# Altium schematic symbol library IC.SchLib: 18 symbols
Pins are listed as number, name and electrical type; pins without a type are passive.

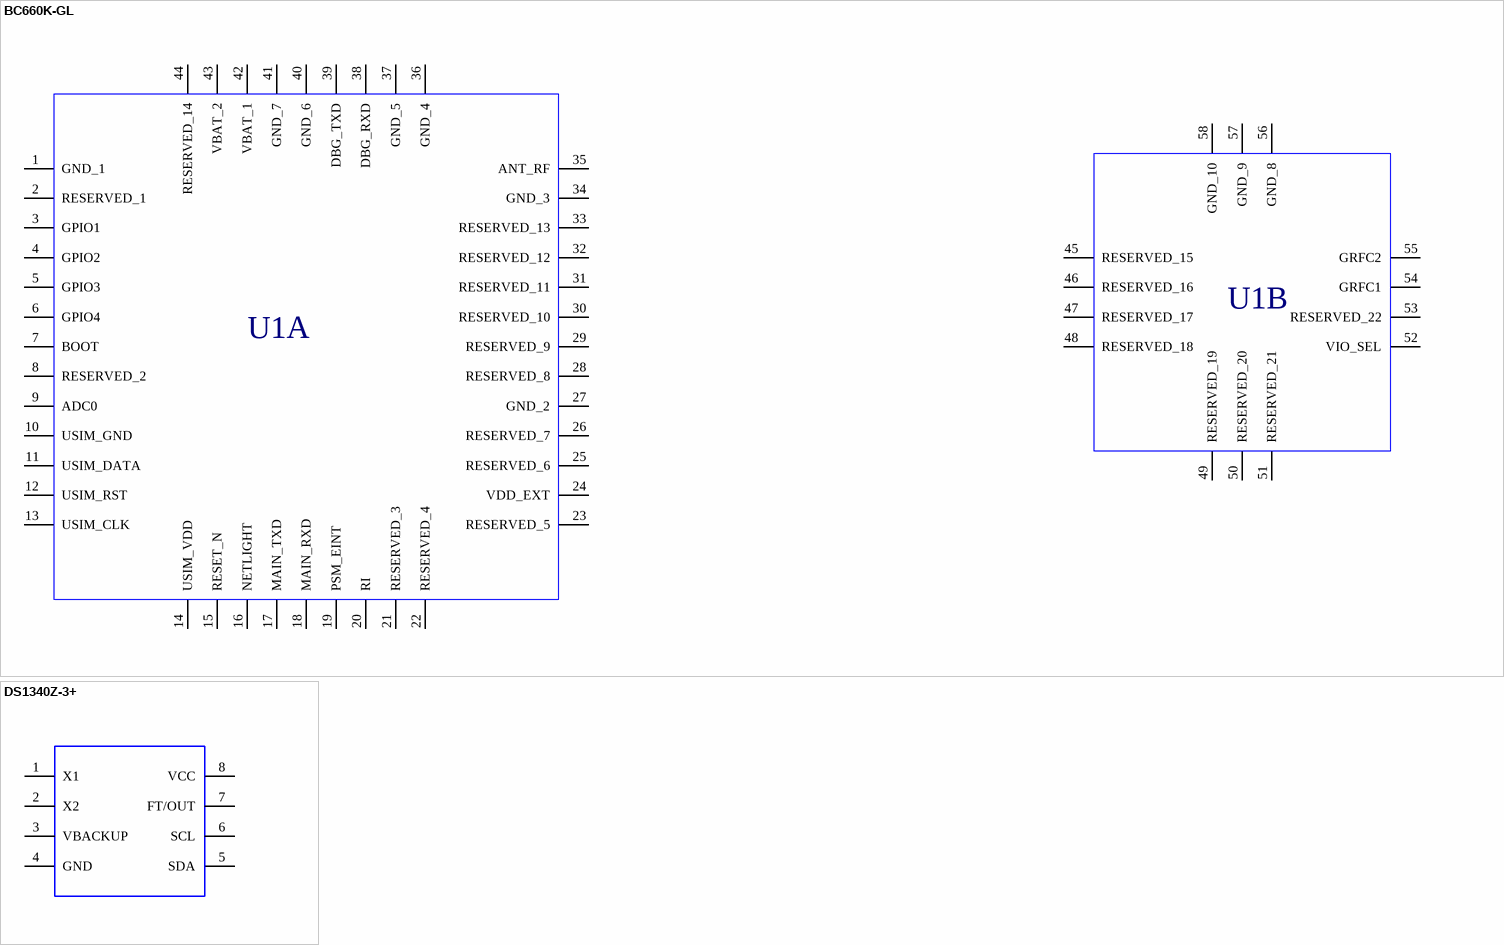
[diagram p0: symbols BC660K-GL to DS1340Z-3+]

## BC660K-GL
designator U?
Compact NB-IoT Module with Ultra-low Power Consumption LTE Cat NB2 2.2V to 4.3V 16.7kbps/158.5kbps 58-Pin LCC - Tape and Reel; Manufacturer_Name: Quectel; Geometry.Height: 2.2mm; Manufacturer_Part_Number: BC660K-GL; Mouser Part Number: *; Mouser Price/Stock: *; Arrow Part Number: *; Arrow Price/Stock: *; Mouser Testing Part Number: *; Mouser Testing Price/Stock: *; Datasheet Link: https://www.quectel.com/wp-content/uploads/2021/04/Quectel_BC660K-GL_Hardware_Design_V1.0.pdf
footprint BC660KGL
pins: 1 GND_1, 2 RESERVED_1, 3 GPIO1, 4 GPIO2, 5 GPIO3, 6 GPIO4, 7 BOOT, 8 RESERVED_2, 9 ADC0, 10 USIM_GND, 11 USIM_DATA, 12 USIM_RST, 13 USIM_CLK, 14 USIM_VDD, 15 RESET_N, 16 NETLIGHT, 17 MAIN_TXD, 18 MAIN_RXD, 19 PSM_EINT, 20 RI, 21 RESERVED_3, 22 RESERVED_4, 23 RESERVED_5, 24 VDD_EXT, 25 RESERVED_6, 26 RESERVED_7, 27 GND_2, 28 RESERVED_8, 29 RESERVED_9, 30 RESERVED_10, 31 RESERVED_11, 32 RESERVED_12, 33 RESERVED_13, 34 GND_3, 35 ANT_RF, 36 GND_4, 37 GND_5, 38 DBG_RXD, 39 DBG_TXD, 40 GND_6, 41 GND_7, 42 VBAT_1, 43 VBAT_2, 44 RESERVED_14, 45 RESERVED_15, 46 RESERVED_16, 47 RESERVED_17, 48 RESERVED_18, 49 RESERVED_19, 50 RESERVED_20, 51 RESERVED_21, 52 VIO_SEL, 53 RESERVED_22, 54 GRFC1, 55 GRFC2, 56 GND_8, 57 GND_9, 58 GND_10
text: U1B; U1A

## DS1340Z-3+
designator B?
Maxim DS1340Z-3+ Real Time Clock  Calendar 8-Pin SOIC; Manufacturer_Name: Maxim Integrated; Geometry.Height: 1.75mm; Manufacturer_Part_Number: DS1340Z-3+; Mouser Part Number: 700-DS1340Z-3; Mouser Price/Stock: https://www.mouser.co.uk/ProductDetail/Maxim-Integrated/DS1340Z-3%2b?qs=1eQvB6Dk1vgZlP%2FkqXh3xQ%3D%3D; Arrow Part Number: *; Arrow Price/Stock: *; Mouser Testing Part Number: *; Mouser Testing Price/Stock: *; Datasheet Link: https://datasheets.maximintegrated.com/en/ds/DS1340-DS1340C.pdf
footprint SOIC127P600X175-8N
pins: 1 X1, 2 X2, 3 VBACKUP, 4 GND, 5 SDA, 6 SCL, 7 FT/OUT, 8 VCC

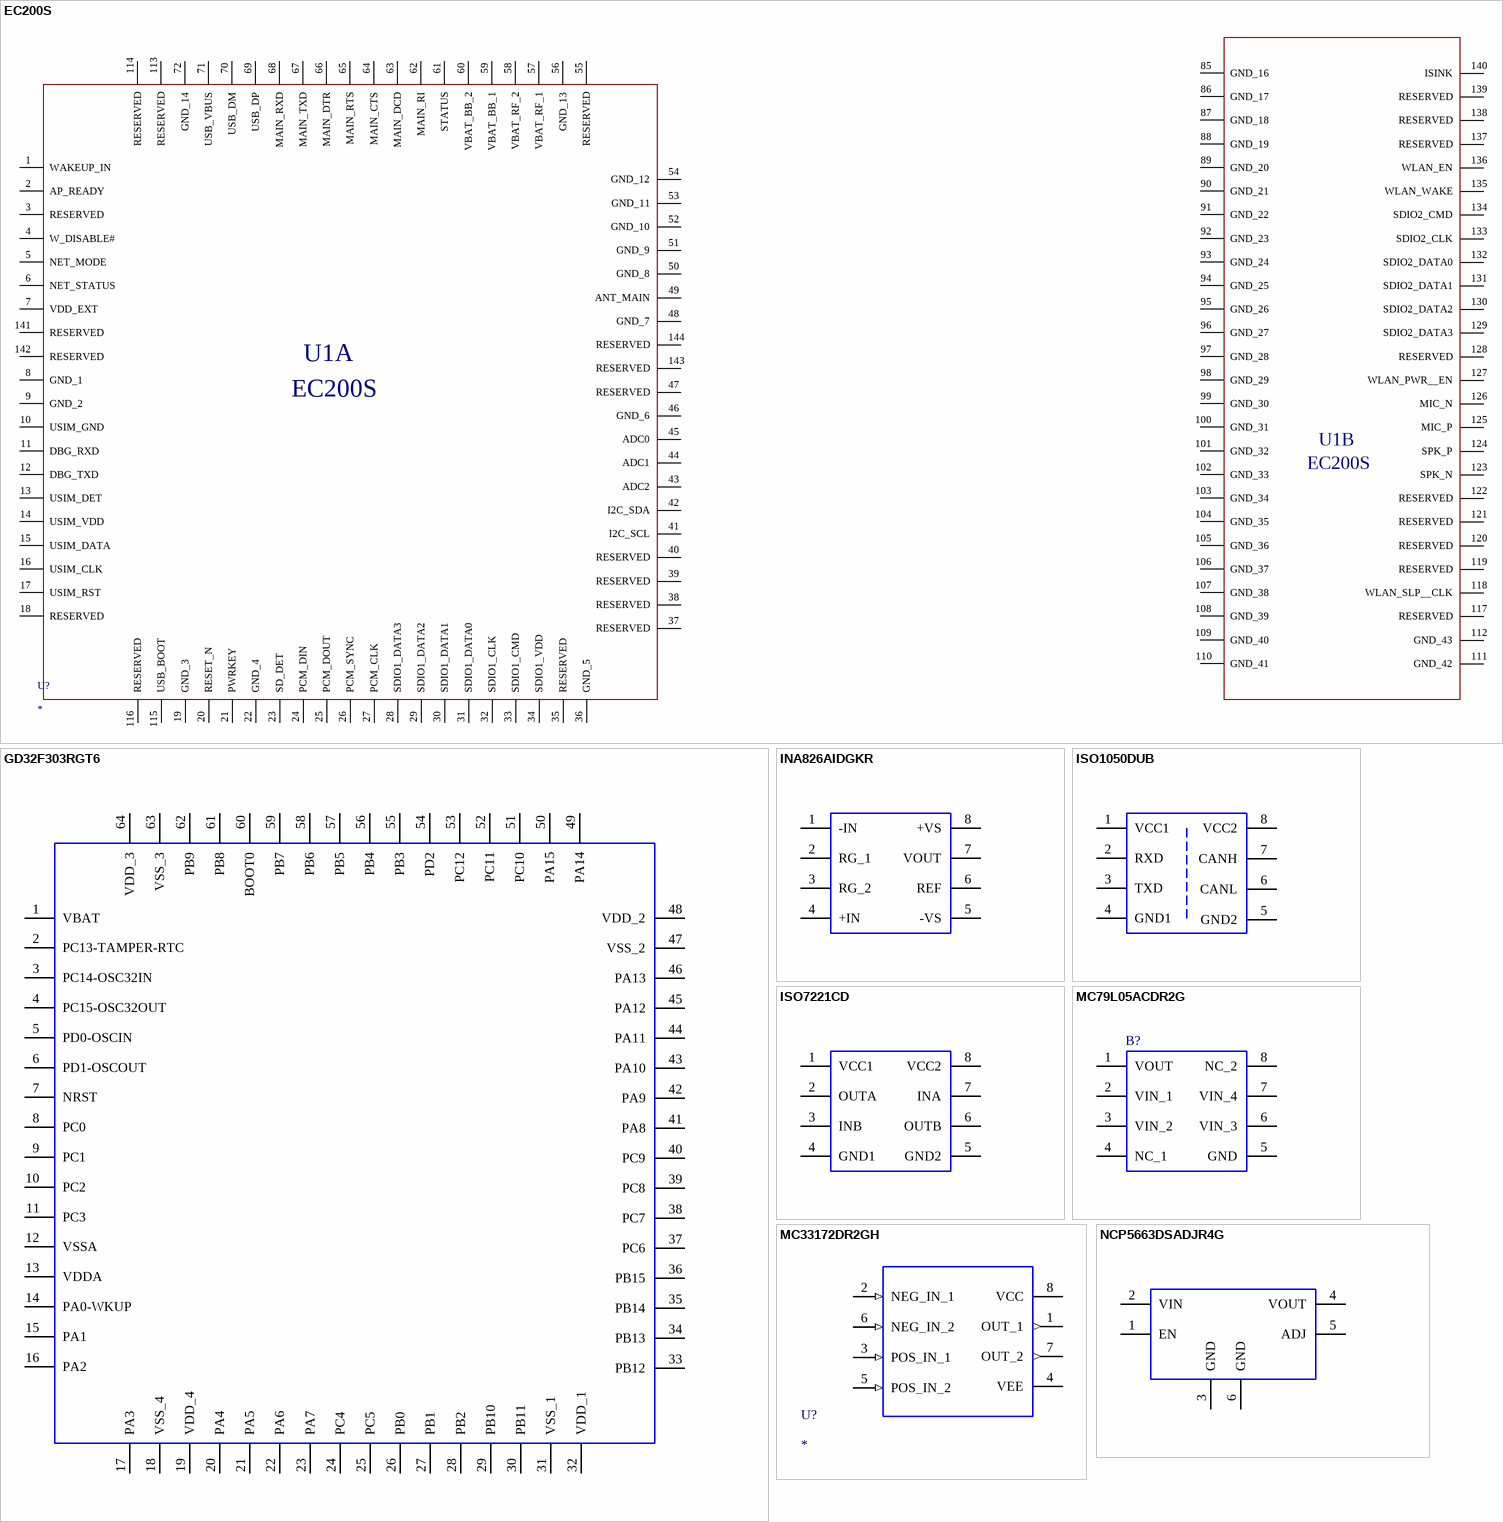
[diagram p1: symbols EC200S to NCP5663DSADJR4G]

## EC200S
designator U?
GMS/4G-LTE
footprint EC200U
footprint EC200U
pins: 1 WAKEUP_IN, 2 AP_READY, 3 RESERVED, 4 W_DISABLE#, 5 NET_MODE, 6 NET_STATUS, 7 VDD_EXT, 8 GND_1, 9 GND_2, 10 USIM_GND, 11 DBG_RXD, 12 DBG_TXD, 13 USIM_DET, 14 USIM_VDD, 15 USIM_DATA, 16 USIM_CLK, 17 USIM_RST, 18 RESERVED, 19 GND_3, 20 RESET_N, 21 PWRKEY, 22 GND_4, 23 SD_DET, 24 PCM_DIN, 25 PCM_DOUT, 26 PCM_SYNC, 27 PCM_CLK, 28 SDIO1_DATA3, 29 SDIO1_DATA2, 30 SDIO1_DATA1, 31 SDIO1_DATA0, 32 SDIO1_CLK, 33 SDIO1_CMD, 34 SDIO1_VDD, 35 RESERVED, 36 GND_5, 37 RESERVED, 38 RESERVED, 39 RESERVED, 40 RESERVED, 41 I2C_SCL, 42 I2C_SDA, 43 ADC2, 44 ADC1, 45 ADC0, 46 GND_6, 47 RESERVED, 48 GND_7, 49 ANT_MAIN, 50 GND_8, 51 GND_9, 52 GND_10, 53 GND_11, 54 GND_12, 55 RESERVED, 56 GND_13, 57 VBAT_RF_1, 58 VBAT_RF_2, 59 VBAT_BB_1, 60 VBAT_BB_2, 61 STATUS, 62 MAIN_RI, 63 MAIN_DCD, 64 MAIN_CTS, 65 MAIN_RTS, 66 MAIN_DTR, 67 MAIN_TXD, 68 MAIN_RXD, 69 USB_DP, 70 USB_DM, 71 USB_VBUS, 72 GND_14, 85 GND_16, 86 GND_17, 87 GND_18, 88 GND_19, 89 GND_20, 90 GND_21, 91 GND_22, 92 GND_23, 93 GND_24, 94 GND_25, 95 GND_26, 96 GND_27, 97 GND_28, 98 GND_29, 99 GND_30, 100 GND_31, 101 GND_32, 102 GND_33, 103 GND_34, 104 GND_35, 105 GND_36, 106 GND_37, 107 GND_38, 108 GND_39, 109 GND_40, 110 GND_41, 111 GND_42, 112 GND_43, 113 RESERVED, 114 RESERVED, 115 USB_BOOT, 116 RESERVED, 117 RESERVED, 118 WLAN_SLP__CLK, 119 RESERVED, 120 RESERVED, 121 RESERVED, 122 RESERVED, 123 SPK_N, 124 SPK_P, 125 MIC_P, 126 MIC_N, 127 WLAN_PWR__EN, 128 RESERVED, 129 SDIO2_DATA3, 130 SDIO2_DATA2, 131 SDIO2_DATA1, 132 SDIO2_DATA0, 133 SDIO2_CLK, 134 SDIO2_CMD, 135 WLAN_WAKE, 136 WLAN_EN, 137 RESERVED, 138 RESERVED, 139 RESERVED, 140 ISINK, 141 RESERVED, 142 RESERVED, 143 RESERVED, 144 RESERVED
text: U1A; U1B

## GD32F303RGT6
designator B?
ARM Cortex-M4 32-bit MCU; Manufacturer_Name: GigaDevice Semiconductor (HK) Limited; Geometry.Height: 1.6mm; Manufacturer_Part_Number: GD32F303RGT6; Mouser Part Number: N/A; Mouser Price/Stock: https://www.mouser.co.uk/ProductDetail/GigaDevice/GD32F303RGT6?qs=A6eO%252BMLsxmRbzSGlFw6W%252BQ%3D%3D; Arrow Part Number: *; Arrow Price/Stock: *; Mouser Testing Part Number: *; Mouser Testing Price/Stock: *; Datasheet Link: https://www.gigadevice.com/datasheet/gd32f303xxxx-datasheet/
footprint QFP50P1200X1200X160-64N
footprint QFP50P1200X1200X160-64N
pins: 1 VBAT, 2 PC13-TAMPER-RTC, 3 PC14-OSC32IN, 4 PC15-OSC32OUT, 5 PD0-OSCIN, 6 PD1-OSCOUT, 7 NRST, 8 PC0, 9 PC1, 10 PC2, 11 PC3, 12 VSSA, 13 VDDA, 14 PA0-WKUP, 15 PA1, 16 PA2, 17 PA3, 18 VSS_4, 19 VDD_4, 20 PA4, 21 PA5, 22 PA6, 23 PA7, 24 PC4, 25 PC5, 26 PB0, 27 PB1, 28 PB2, 29 PB10, 30 PB11, 31 VSS_1, 32 VDD_1, 33 PB12, 34 PB13, 35 PB14, 36 PB15, 37 PC6, 38 PC7, 39 PC8, 40 PC9, 41 PA8, 42 PA9, 43 PA10, 44 PA11, 45 PA12, 46 PA13, 47 VSS_2, 48 VDD_2, 49 PA14, 50 PA15, 51 PC10, 52 PC11, 53 PC12, 54 PD2, 55 PB3, 56 PB4, 57 PB5, 58 PB6, 59 PB7, 60 BOOT0, 61 PB8, 62 PB9, 63 VSS_3, 64 VDD_3

## INA826AIDGKR
designator B?
Precision, 200-uA Supply Current, 36-V Supply Instrumentation Amplifier; Manufacturer_Name: Texas Instruments; Geometry.Height: 1.1mm; Manufacturer_Part_Number: INA826AIDGKR; Mouser Part Number: 595-INA826AIDGKR; Mouser Price/Stock: https://www.mouser.co.uk/ProductDetail/Texas-Instruments/INA826AIDGKR?qs=RqytGdBYyUFRygOfwpYOmQ%3D%3D; Arrow Part Number: INA826AIDGKR; Arrow Price/Stock: https://www.arrow.com/en/products/ina826aidgkr/texas-instruments?region=nac; Mouser Testing Part Number: *; Mouser Testing Price/Stock: *; Datasheet Link: http://www.ti.com/lit/ds/symlink/ina826.pdf
footprint SOP65P490X110-8N
footprint SOP65P490X110-8N
pins: 1 -IN, 2 RG_1, 3 RG_2, 4 +IN, 5 -VS, 6 REF, 7 VOUT, 8 +VS

## ISO1050DUB
designator B?
CAN Transceiver 1Mbit/s ISO 11898-2 Silent-Mode 8pins SOIC; Manufacturer_Name: Texas Instruments; Geometry.Height: 4.85mm; Manufacturer_Part_Number: ISO1050DUB; Mouser Part Number: 595-ISO1050DUB; Mouser Price/Stock: https://www.mouser.co.uk/ProductDetail/Texas-Instruments/ISO1050DUB?qs=IK5e5L0zOXiBKtns%252BwxBWw%3D%3D; Arrow Part Number: ISO1050DUB; Arrow Price/Stock: https://www.arrow.com/en/products/iso1050dub/texas-instruments?region=nac; Mouser Testing Part Number: *; Mouser Testing Price/Stock: *; Datasheet Link: https://datasheet.datasheetarchive.com/originals/distributors/Datasheets-SFU2/DSASFU100032000.pdf
footprint SOP254P1040X485-8N
footprint SOP254P1040X485-8N
pins: 1 VCC1, 2 RXD, 3 TXD, 4 GND1, 5 GND2, 6 CANL, 7 CANH, 8 VCC2

## ISO7221CD
designator B?
Texas Instruments ISO7221CD Digital Isolator SOIC8; Geometry.Height: 1.75mm; Manufacturer_Name: Texas Instruments; Manufacturer_Part_Number: ISO7221CD; Mouser Part Number: 595-ISO7221CD; Mouser Price/Stock: https://www.mouser.co.uk/ProductDetail/Texas-Instruments/ISO7221CD?qs=tP77tliwutCCmPUysEBMTw%3D%3D; Arrow Part Number: ISO7221CD; Arrow Price/Stock: https://www.arrow.com/en/products/iso7221cd/texas-instruments?region=nac; Mouser Testing Part Number: *; Mouser Testing Price/Stock: *; Datasheet Link: http://www.ti.com/lit/ds/symlink/iso7220c.pdf
footprint SOIC127P600X175-8N
pins: 1 VCC1, 2 OUTA, 3 INB, 4 GND1, 5 GND2, 6 OUTB, 7 INA, 8 VCC2

## MC79L05ACDR2G
designator B?
Manufacturer_Name: onsemi; Geometry.Height: 1.75mm; Manufacturer_Part_Number: MC79L05ACDR2G; Mouser Part Number: 863-MC79L05ACDR2G; Mouser Price/Stock: https://www.mouser.co.uk/ProductDetail/onsemi/MC79L05ACDR2G?qs=%252B9%2Fcbd0IE0RF56w%2FNOqBRg%3D%3D; Arrow Part Number: MC79L05ACDR2G; Arrow Price/Stock: https://www.arrow.com/en/products/mc79l05acdr2g/on-semiconductor; Mouser Testing Part Number: *; Mouser Testing Price/Stock: *; Datasheet Link: http://www.onsemi.com/pub/Collateral/MC79L00-D.PDF
footprint SOIC127P600X175-8N
pins: 1 VOUT, 2 VIN_1, 3 VIN_2, 4 NC_1, 5 GND, 6 VIN_3, 7 VIN_4, 8 NC_2

## MC33172DR2GH
designator U?
General Purpose Amplifier 2 Circuit - 8-SOIC; MF: ON Semiconductor; MP: MC33172DR2GH; Purchase-URL: https://pricing.snapeda.com/search/part/MC33172DR2GH/?ref=eda; Value: *; SnapEDA_Link: https://www.snapeda.com/parts/MC33172DR2GH/Onsemi/view-part/?ref=snap; Package: None; Check_prices: https://www.snapeda.com/parts/MC33172DR2GH/Onsemi/view-part/?ref=eda; Availability: In Stock; Price: None
footprint SOIC127P600X175-8N
pins: 1 OUT_1 (out), 2 NEG_IN_1 (in), 3 POS_IN_1 (in), 4 VEE (power), 5 POS_IN_2 (in), 6 NEG_IN_2 (in), 7 OUT_2 (out), 8 VCC (power)

## NCP5663DSADJR4G
designator B?
Linear Voltage Regulator, LDO, Fast Response, 3.0 A, with Enable Vout: Adj; Manufacturer_Name: onsemi; Geometry.Height: 4.826mm; Manufacturer_Part_Number: NCP5663DSADJR4G; Mouser Part Number: 863-NCP5663DSADJR4G; Mouser Price/Stock: https://www.mouser.co.uk/ProductDetail/onsemi/NCP5663DSADJR4G?qs=%2FugrpAKHX8rUyz7Fi%2Fgntg%3D%3D; Arrow Part Number: NCP5663DSADJR4G; Arrow Price/Stock: https://www.arrow.com/en/products/ncp5663dsadjr4g/on-semiconductor?region=nac; Mouser Testing Part Number: *; Mouser Testing Price/Stock: *; Datasheet Link: http://www.onsemi.com/pub/Collateral/NCP5663-D.PDF
footprint NCP5663DSADJR4G
pins: 1 EN, 2 VIN, 3 GND, 4 VOUT, 5 ADJ, 6 GND

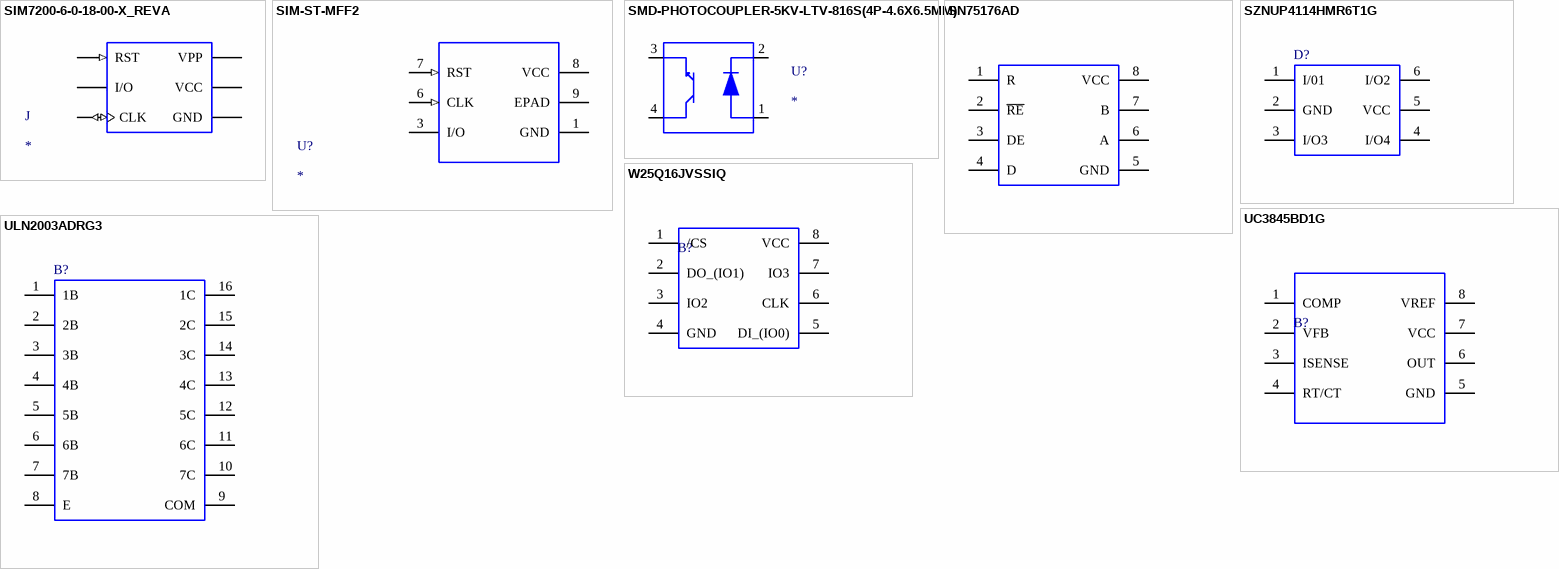
[diagram p2: symbols SIM7200-6-0-18-00-X_REVA to W25Q16JVSSIQ]

## SIM7200-6-0-18-00-X_REVA
designator J
6 Position Card Connector Micro SIM Surface Mount, Right Angle Gold; MF: Global Connector Technology; MP: SIM7200-6-0-18-00-A; SnapEDA_Link: https://www.snapeda.com/parts/SIM7200-6-0-18-00-A/Global%20Connector%20Technology/view-part/812977/?ref=snap; Package: None; Price: None; Value: *; Availability: Unavailable
footprint GCT_SIM7200-6-0-18-00-X_REVA
footprint GCT_SIM7200-6-0-18-00-X_REVA
pins: C1 VCC (power), C2 RST (in), C3 CLK (io), C5 GND (power), C6 VPP (power), C7 I/O

## SIM-ST-MFF2
designator U?
GLOBAL IOT EMBEDDED SIM CHIP; MP: SIM-ST-MFF2; Value: *; Package: None; Availability: Unavailable; Price: None
footprint PSON127P500X600X82-9N
pins: 1 GND (power), 3 I/O, 6 CLK (in), 7 RST (in), 8 VCC (power), 9 EPAD

## SMD-PHOTOCOUPLER-5KV-LTV-816S(4P-4.6X6.5MM)
designator U?
Optoisolator Transistor Output 5000Vrms 1 Channel 4-SMD; MP: LTV-816S; MF: Lite-On Inc.; Availability: Good; SnapEDA_Link: https://www.snapeda.com/parts/LTV-816S/Lite-On%20Inc./view-part/106189/?ref=snap; Value: *; Price: None; Package: SMD-4 Lite-On Inc.; Check_prices: https://www.snapeda.com/parts/LTV-816S/Lite-On%20Inc./view-part/106189/?ref=eda; Purchase-URL: https://pricing.snapeda.com/search/part/LTV-816S/?ref=eda
footprint SMD4-2.54-4.6X6.5MM
footprint SMD4-2.54-4.6X6.5MM
pins: 1 ANODE (io), 2 CATHODE (io), 3 EMITER (io), 4 COLLECTOR (io)

## SN75176AD
designator B?
SN75176AD, Line Transceiver, EIA/TIA-422-B, RS-485, RS-422, V.11 10Mbit/s Differential, 5V, 8-Pin SOIC; Manufacturer_Name: Texas Instruments; Geometry.Height: 1.75mm; Manufacturer_Part_Number: SN75176AD; Mouser Part Number: 595-SN75176AD; Mouser Price/Stock: https://www.mouser.co.uk/ProductDetail/Texas-Instruments/SN75176AD?qs=FetendrIl6upbSVFRObzhQ%3D%3D; Arrow Part Number: SN75176AD; Arrow Price/Stock: https://www.arrow.com/en/products/sn75176ad/texas-instruments?region=nac; Mouser Testing Part Number: *; Mouser Testing Price/Stock: *; Datasheet Link: http://www.ti.com/lit/ds/symlink/sn75176a.pdf
footprint SOIC127P600X175-8N
footprint SOIC127P600X175-8N
pins: 1 R, 2 ~{RE}, 3 DE, 4 D, 5 GND, 6 A, 7 B, 8 VCC

## SZNUP4114HMR6T1G
designator D?
ON Semiconductor SZNUP4114HMR6T1G Quad Uni-Directional TVS Diode Array, 6-Pin TSOP; Manufacturer_Name: onsemi; Geometry.Height: 1.1mm; Manufacturer_Part_Number: SZNUP4114HMR6T1G; Mouser Part Number: 863-SZNUP4114HMR6T1G; Mouser Price/Stock: https://www.mouser.co.uk/ProductDetail/onsemi/SZNUP4114HMR6T1G?qs=3PKVEWFFm28CWuvYGXlVhA%3D%3D; Arrow Part Number: SZNUP4114HMR6T1G; Arrow Price/Stock: https://www.arrow.com/en/products/sznup4114hmr6t1g/on-semiconductor; Mouser Testing Part Number: *; Mouser Testing Price/Stock: *; Datasheet Link: https://componentsearchengine.com/Datasheets/2/SZNUP4114HMR6T1G.pdf
footprint SOP95P275X110-6N
footprint SOP95P275X110-6N
pins: 1 I/01, 2 GND, 3 I/O3, 4 I/O4, 5 VCC, 6 I/O2

## UC3845BD1G
designator B?
Switching Controllers 52kHz 1A Current PWM w/48% Duty Cycle Max; Manufacturer_Name: onsemi; Geometry.Height: 1.75mm; Manufacturer_Part_Number: UC3845BD1G; Mouser Part Number: 863-UC3845BD1G; Mouser Price/Stock: https://www.mouser.co.uk/ProductDetail/onsemi/UC3845BD1G?qs=xZq1yRCsb1d5dYyiJIRbnw%3D%3D; Arrow Part Number: UC3845BD1G; Arrow Price/Stock: https://www.arrow.com/en/products/uc3845bd1g/on-semiconductor?region=europe; Mouser Testing Part Number: *; Mouser Testing Price/Stock: *; Datasheet Link: https://componentsearchengine.com/Datasheets/2/UC3845BD1G.pdf
footprint SOIC127P600X175-8N
footprint SOIC127P600X175-8N
pins: 1 COMP, 2 VFB, 3 ISENSE, 4 RT/CT, 5 GND, 6 OUT, 7 VCC, 8 VREF

## ULN2003ADRG3
designator B?
HIGH-VOLTAGE, HIGH-CURRENT DARLINGTON TRANSISTOR ARRAYS; Manufacturer_Name: Texas Instruments; Geometry.Height: 1.75mm; Manufacturer_Part_Number: ULN2003ADRG3; Mouser Part Number: 595-ULN2003ADRG3; Mouser Price/Stock: https://www.mouser.co.uk/ProductDetail/Texas-Instruments/ULN2003ADRG3?qs=EuM%2FBx4ov4S9cNTsuvFOhA%3D%3D; Arrow Part Number: ULN2003ADRG3; Arrow Price/Stock: https://www.arrow.com/en/products/uln2003adrg3/texas-instruments?region=nac; Mouser Testing Part Number: *; Mouser Testing Price/Stock: *; Datasheet Link: http://www.ti.com/lit/gpn/uln2003a
footprint SOIC127P600X175-16N
footprint SOIC127P600X175-16N
pins: 1 1B, 2 2B, 3 3B, 4 4B, 5 5B, 6 6B, 7 7B, 8 E, 9 COM, 10 7C, 11 6C, 12 5C, 13 4C, 14 3C, 15 2C, 16 1C

## W25Q16JVSSIQ
designator B?
16M-bit Serial Flash Memory with uniform 4KB sectors and Dual/Quad SPI; Manufacturer_Name: Winbond; Geometry.Height: 2.16mm; Manufacturer_Part_Number: W25Q16JVSSIQ; Mouser Part Number: 454-W25Q16JVSSIQ; Mouser Price/Stock: https://www.mouser.co.uk/ProductDetail/Winbond/W25Q16JVSSIQ?qs=qSfuJ%252Bfl%2Fd46L%2F1QrQC%2Fog%3D%3D; Arrow Part Number: W25Q16JVSSIQ; Arrow Price/Stock: https://www.arrow.com/en/products/w25q16jvssiq/winbond-electronics?region=nac; Mouser Testing Part Number: *; Mouser Testing Price/Stock: *; Datasheet Link: https://www.winbond.com/hq/search-resource-file.jsp?partNo=W25Q16JVSSIQ&type=datasheet
footprint SOP254P1040X485-8N
footprint SOP254P1040X485-8N
pins: 1 /CS, 2 DO_(IO1), 3 IO2, 4 GND, 5 DI_(IO0), 6 CLK, 7 IO3, 8 VCC